# Altium footprint library PINPAD.PCBLIB: 151 footprints (part 3 of 10)
Each footprint in its own frame and in the unit in brackets; x right, y up, seen from the top. Pads: shape width x height; smd on the part's side, far side on the other; paste and mask are expansions set on the pad; w line width, h text height; cw(c..) or ccw(c..) is an arc to the next point about the centre after c.
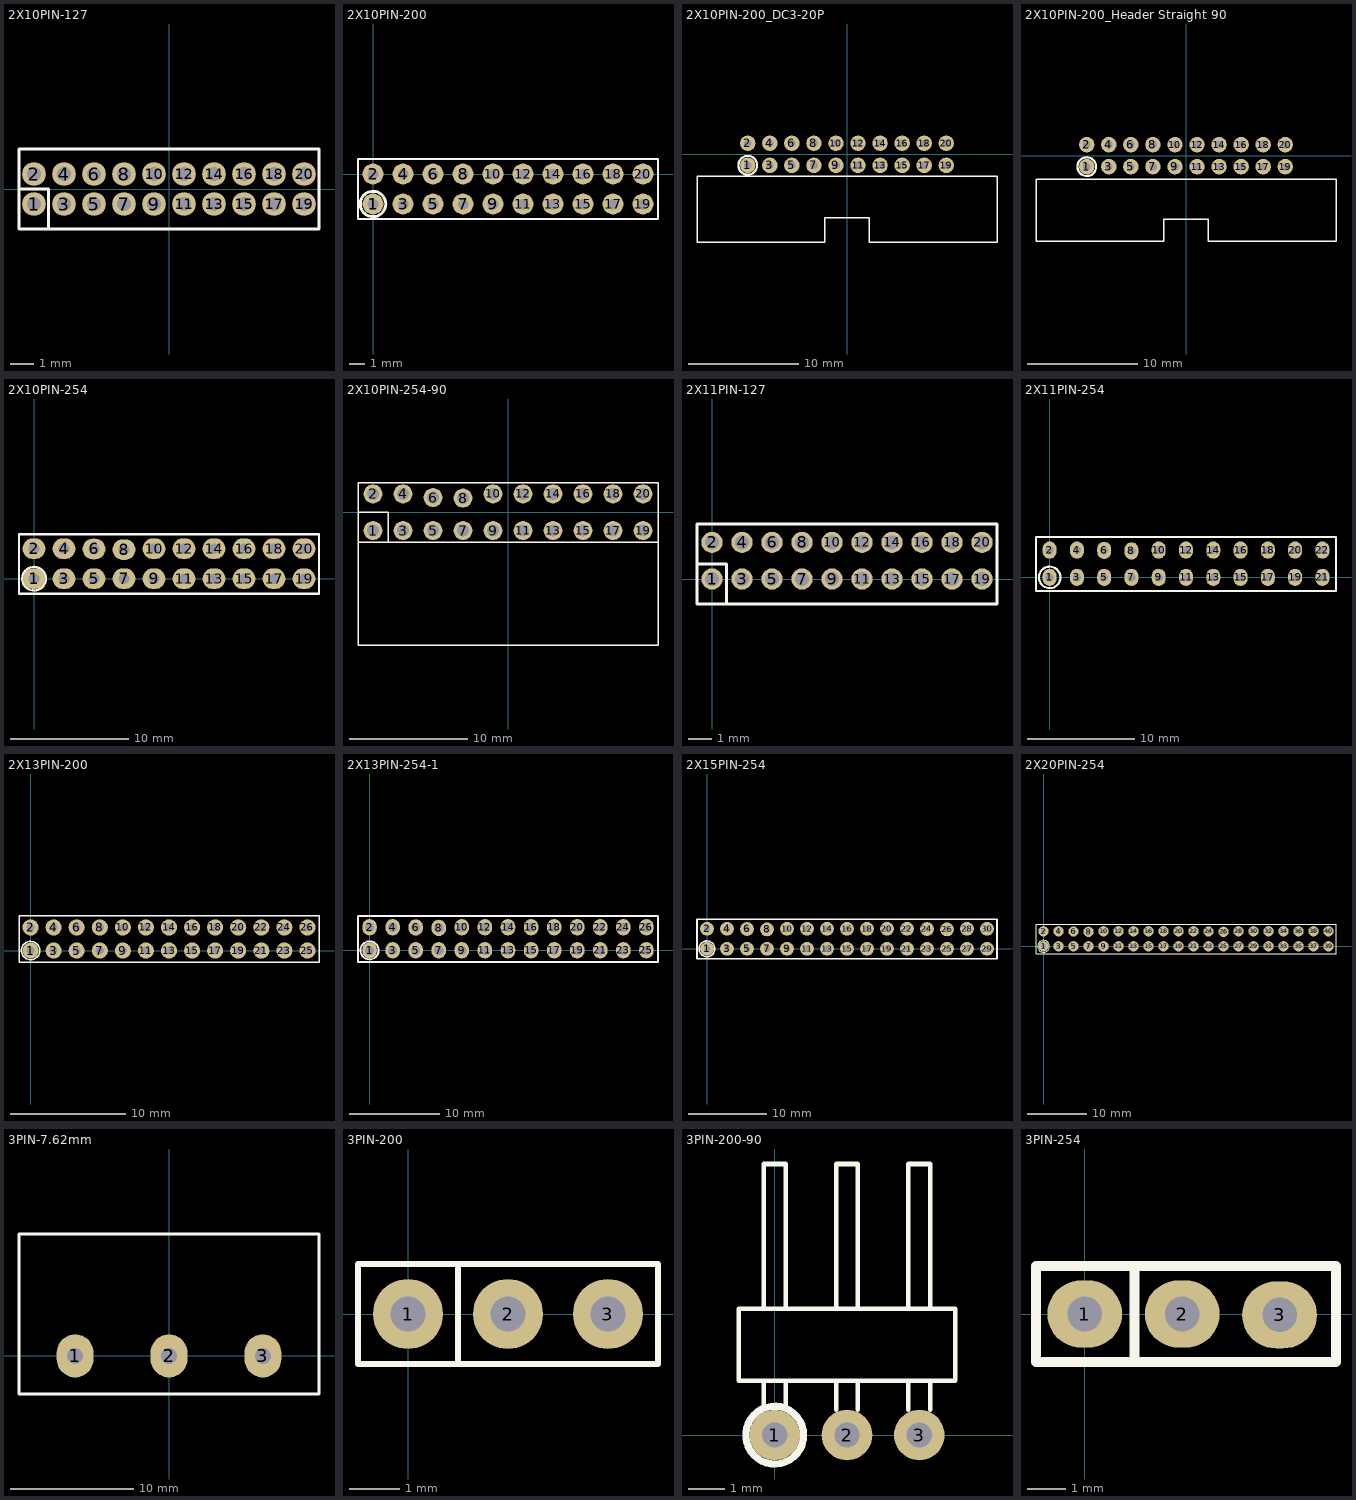
[diagram p2: the footprints below, top view; thin cyan lines are the x and y axes]

## 2X10PIN-127 [mm]
pads (20):
  round 1 hole 0.6: 1(-5.715,-0.635) 2(-5.715,0.635) 3(-4.445,-0.635) 4(-4.445,0.635) 5(-3.175,-0.635) 6(-3.175,0.635) 7(-1.905,-0.635) 8(-1.905,0.635) 9(-0.635,-0.635) 10(-0.635,0.635) 11(0.635,-0.635) 12(0.635,0.635) 13(1.905,-0.635) 14(1.905,0.635) 15(3.175,-0.635) 16(3.175,0.635) 17(4.445,-0.635) 18(4.445,0.635) 19(5.715,-0.635) 20(5.715,0.635)
TopOverlay:
  lines w0.127: -6.35,0 -5.1,0 -5.1,-1.7 ; -6.35,-1.7 -6.35,1.7 6.35,1.7 6.35,-1.7 -6.35,-1.7

## 2X10PIN-200 [mm]
pads (20):
  round 1.4 hole 0.7: 1(0,-2) 2(0,0) 3(2,-2) 4(2,0) 5(4,-2) 6(4,0) 7(6,-2) 8(6,0) 9(8,-2) 10(8,0) 11(10,-2) 12(10,0) 13(12,-2) 14(12,0) 15(14,-2) 16(14,0) 17(16,-2) 18(16,0) 19(18,-2) 20(18,0)
TopOverlay:
  circle w0.2: c0,-2 r0.85
  lines w0.127: -1,-3 19,-3 19,1 -1,1 -1,-3

## 2X10PIN-200_DC3-20P [mm] "2X10PIN-200_DC3-20P"
pads (20):
  round 1.4 hole 0.7: 1(-9,-1) 2(-9,1) 3(-7,-1) 4(-7,1) 5(-5,-1) 6(-5,1) 7(-3,-1) 8(-3,1) 9(-1,-1) 10(-1,1) 11(1,-1) 12(1,1) 13(3,-1) 14(3,1) 15(5,-1) 16(5,1) 17(7,-1) 18(7,1) 19(9,-1) 20(9,1)
TopOverlay:
  circle w0.2: c-9,-1 r0.85
  lines w0.127: -13.6,-8 -2,-8 -2,-5.75 2,-5.75 2,-8 13.6,-8 13.6,-2 -13.6,-2 -13.6,-8

## 2X10PIN-200_Header Straight 90 [mm] "2X10PIN-200_Header Straight 90"
pads (20):
  round 1.4 hole 0.7: 1(-9,-1) 2(-9,1) 3(-7,-1) 4(-7,1) 5(-5,-1) 6(-5,1) 7(-3,-1) 8(-3,1) 9(-1,-1) 10(-1,1) 11(1,-1) 12(1,1) 13(3,-1) 14(3,1) 15(5,-1) 16(5,1) 17(7,-1) 18(7,1) 19(9,-1) 20(9,1)
TopOverlay:
  circle w0.2: c-9,-1 r0.85
  lines w0.127: -13.6,-7.75 -13.6,-2.15 13.6,-2.15 13.6,-7.75 2,-7.75 2,-5.75 -2,-5.75 -2,-7.75 -13.6,-7.75

## 2X10PIN-254 [mm]
pads (20):
  oval 1.95x1.75 hole 0.9: 1(0,0) 2(0,2.54) 3(2.54,0) 4(2.54,2.54) 5(5.08,0) 6(5.08,2.515) 7(7.62,0) 8(7.62,2.465) 9(10.16,0) 10(10.16,2.54) 11(12.7,0) 12(12.7,2.54) 13(15.24,0) 14(15.24,2.54) 15(17.78,0) 16(17.78,2.54) 17(20.32,0) 18(20.32,2.54) 19(22.86,0) 20(22.86,2.54)
TopOverlay:
  circle w0.2: c0,0 r1
  lines w0.2: -1.27,-1.28 24.13,-1.28 24.13,3.77 -1.27,3.77 -1.27,-1.28

## 2X10PIN-254-90 [mm]
pads (20):
  round 1.6 hole 1: 1(-11.43,-1.55) 2(-11.43,1.55) 3(-8.89,-1.55) 4(-8.89,1.55) 5(-6.35,-1.55) 6(-6.35,1.245) 7(-3.81,-1.55) 8(-3.81,1.195) 9(-1.27,-1.55) 10(-1.27,1.55) 11(1.27,-1.55) 12(1.27,1.55) 13(3.81,-1.55) 14(3.81,1.55) 15(6.35,-1.55) 16(6.35,1.55) 17(8.89,-1.55) 18(8.89,1.55) 19(11.43,-1.55) 20(11.43,1.55)
TopOverlay:
  lines w0.127: -12.66,0 -10.16,0 ; -10.13,-2.48 -10.13,-0.03 ; -12.7,-2.55 12.7,-2.55 ; -12.7,-2.55 -12.7,2.5 12.7,2.5 12.7,-2.55 ; -12.7,-2.55 -12.7,-11.27 12.7,-11.27 12.7,-2.55

## 2X11PIN-127 [mm]
pads (20):
  round 0.9 hole 0.6: 1(0,0) 2(0,1.55) 3(1.27,0) 4(1.27,1.55) 5(2.54,0) 6(2.54,1.55) 7(3.81,0) 8(3.81,1.55) 9(5.08,0) 10(5.08,1.55) 11(6.35,0) 12(6.35,1.55) 13(7.62,0) 14(7.62,1.55) 15(8.89,0) 16(8.89,1.55) 17(10.16,0) 18(10.16,1.55) 19(11.43,0) 20(11.43,1.55)
TopOverlay:
  lines w0.127: -0.635,0.635 0.615,0.635 0.615,-1.065 ; -0.635,-1.065 12.065,-1.065 12.065,2.335 -0.635,2.335 -0.635,-1.065

## 2X11PIN-254 [mm] "2X11PIN-254"
pads (22):
  oval 1.3x1.6 hole 0.75: 1(0,0) 2(0,2.54) 3(2.54,0) 4(2.54,2.54) 5(5.08,0) 6(5.08,2.515) 7(7.62,0) 8(7.62,2.465) 9(10.16,0) 10(10.16,2.54) 11(12.7,0) 12(12.7,2.54) 13(15.24,0) 14(15.24,2.54) 15(17.78,0) 16(17.78,2.54) 17(20.32,0) 18(20.32,2.54) 19(22.86,0) 20(22.86,2.54) 21(25.4,0) 22(25.4,2.54)
TopOverlay:
  circle w0.2: c0,0 r1
  lines w0.2: -1.27,-1.28 -1.27,3.77 26.67,3.77 26.67,-1.28 -1.27,-1.28

## 2X13PIN-200 [mm]
pads (26):
  round 1.4 hole 0.7: 1(0,0) 2(0,2) 3(2,0) 4(2,2) 5(4,0) 6(4,2) 7(6,0) 8(6,2) 9(8,0) 10(8,2) 11(10,0) 12(10,2) 13(12,0) 14(12,2) 15(14,0) 16(14,2) 17(16,0) 18(16,2) 19(18,0) 20(18,2) 21(20,0) 22(20,2) 23(22,0) 24(22,2) 25(24,0) 26(24,2)
TopOverlay:
  circle w0.127: c0,0 r0.8
  lines w0.127: -1,-1 -1,3 25,3 25,-1 -1,-1

## 2X13PIN-254-1 [mm]
pads (26):
  oval 1.6x1.8 hole 1: 1(0,0) 2(0,2.54) 3(2.54,0) 4(2.54,2.54) 5(5.08,0) 6(5.08,2.515) 7(7.62,0) 8(7.62,2.465) 9(10.16,0) 10(10.16,2.54) 11(12.7,0) 12(12.7,2.54) 13(15.24,0) 14(15.24,2.54) 15(17.78,0) 16(17.78,2.54) 17(20.32,0) 18(20.32,2.54) 19(22.86,0) 20(22.86,2.54) 21(25.4,0) 22(25.4,2.54) 23(27.94,0) 24(27.94,2.54) 25(30.48,0) 26(30.48,2.54)
TopOverlay:
  circle w0.2: c0,0 r1
  lines w0.2: -1.27,-1.28 31.75,-1.28 31.75,3.77 -1.27,3.77 -1.27,-1.28

## 2X15PIN-254 [mm] "2X15PIN-254"
pads (30):
  round 1.75 hole 0.8: 1(0,0) 2(0,2.54) 3(2.54,0) 4(2.54,2.54) 5(5.08,0) 6(5.08,2.515) 7(7.62,0) 8(7.62,2.465) 9(10.16,0) 10(10.16,2.54) 11(12.7,0) 12(12.7,2.54) 13(15.24,0) 14(15.24,2.54) 15(17.78,0) 16(17.78,2.54) 17(20.32,0) 18(20.32,2.54) 19(22.86,0) 20(22.86,2.54) 21(25.4,0) 22(25.4,2.54) 23(27.94,0) 24(27.94,2.515) 25(30.48,0) 26(30.48,2.465) 27(33.02,0) 28(33.02,2.54) 29(35.56,0) 30(35.56,2.54)
TopOverlay:
  circle w0.2: c0,0 r1
  lines w0.2: -1.27,-1.28 -1.27,3.77 36.83,3.77 36.83,-1.28 -1.27,-1.28

## 2X20PIN-254 [mm] "2X20PIN-254"
pads (40):
  round 1.75 hole 0.8: 1(0,0) 2(0,2.54) 3(2.54,0) 4(2.54,2.54) 5(5.08,0) 6(5.08,2.515) 7(7.62,0) 8(7.62,2.465) 9(10.16,0) 10(10.16,2.54) 11(12.7,0) 12(12.7,2.54) 13(15.24,0) 14(15.24,2.54) 15(17.78,0) 16(17.78,2.54) 17(20.32,0) 18(20.32,2.54) 19(22.86,0) 20(22.86,2.54) 21(25.4,0) 22(25.4,2.54) 23(27.94,0) 24(27.94,2.515) 25(30.48,0) 26(30.48,2.465) 27(33.02,0) 28(33.02,2.54) 29(35.56,0) 30(35.56,2.54) 31(38.1,0) 32(38.1,2.54) 33(40.64,0) 34(40.64,2.54) 35(43.18,0) 36(43.18,2.54) 37(45.72,0) 38(45.72,2.54) 39(48.26,0) 40(48.26,2.54)
TopOverlay:
  circle w0.2: c0,0 r1
  lines w0.2: -1.27,-1.28 49.53,-1.28 49.53,3.77 -1.27,3.77 -1.27,-1.28

## 3PIN-7.62mm [mm] "3PIN-7.62mm"
pads (3):
  oval 3x3.5 hole 1.3: 1(-7.62,0) 2(0,0) 3(7.62,0)
TopOverlay:
  lines w0.254: -12.18,-3.1 -12.18,9.9 4.56,9.9 12.18,9.9 12.18,-3.1 4.56,-3.1 -12.18,-3.1

## 3PIN-200 [mm]
pads (3):
  round 1.4 hole 0.7: 1(0,0) 2(2,0) 3(4,0)
TopOverlay:
  lines w0.127: 1,-1 1,1 ; -1,-1 5,-1 5,1 -1,1 -1,-1

## 3PIN-200-90 [mm]
pads (3):
  round 1.4 hole 0.7: 1(0,0) 2(2,0) 3(4,0)
TopOverlay:
  circle w0.2: c0,0 r0.8
  lines w0.127: -0.3,0.7 -0.3,1.5 ; -0.3,3.5 -0.3,7.5 0.3,7.5 0.3,3.5 ; 0.3,0.7 0.3,1.5 ; 1.7,0.7 1.7,1.5 ; 1.7,3.5 1.7,7.5 2.3,7.5 2.3,3.5 ; 2.3,0.7 2.3,1.5 ; 3.7,0.7 3.7,1.5 ; 3.7,3.5 3.7,7.5 4.3,7.5 4.3,3.5 ; 4.3,0.7 4.3,1.5 ; -1,1.5 5,1.5 5,3.5 -1,3.5 -1,1.5

## 3PIN-254 [mm]
pads (3):
  oval 1.95x1.75 hole 0.9: 1(0,0) 2(2.54,0) 3(5.08,-0.025)
TopOverlay:
  lines w0.254: 1.3,-1.25 1.3,1.25 ; -1.27,-1.25 -1.27,1.25 6.55,1.25 6.55,-1.25 -1.27,-1.25